# Altium schematic symbol library Разъемы.SchLib: 49 symbols
Pins are listed as number, name and electrical type; pins without a type are passive.

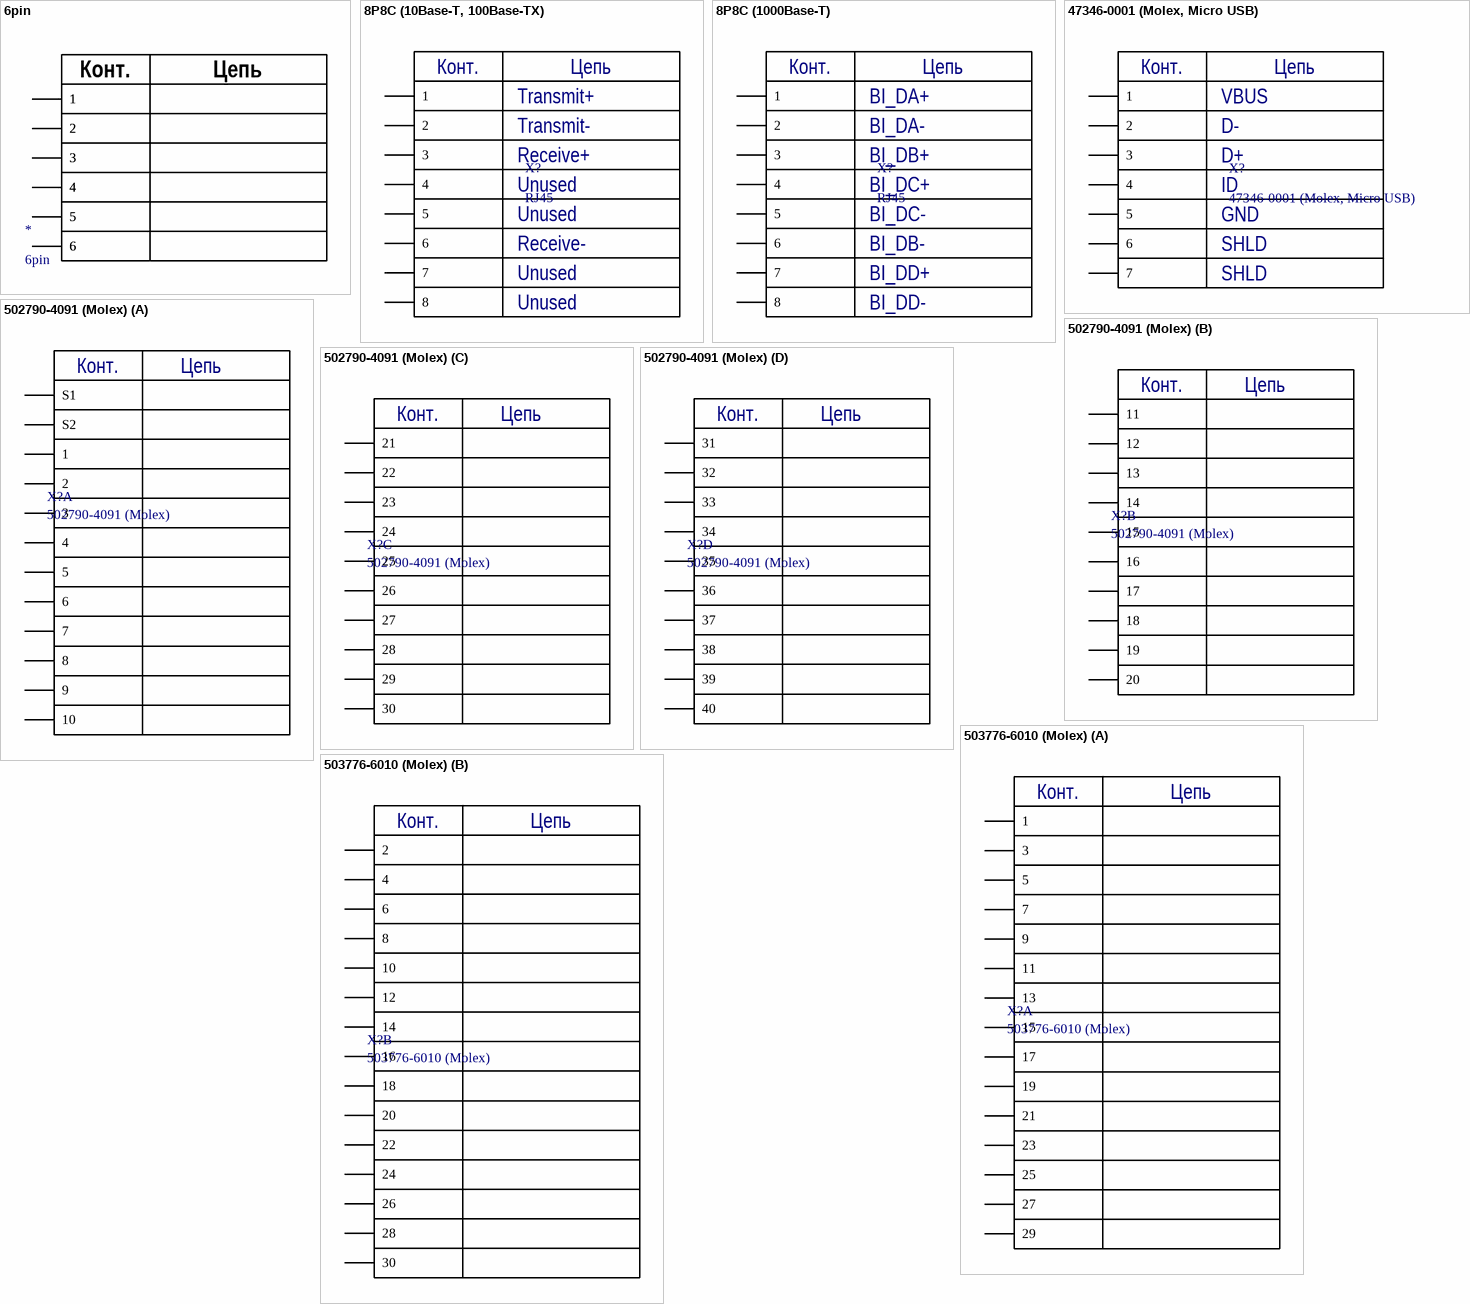
[diagram p0: symbols 6pin to 503776-6010 (Molex)]

## 6pin
designator *
footprint 62000611622 (2.00mm Male Vertical Shrouded Header, 6p)
pins: 1, 1, 2, 2, 3, 3, 4, 4, 5, 5, 6, 6
text: Конт.; Цепь

## 8P8C (10Base-T, 100Base-TX)
designator X?, comment RJ45
8P8C
footprint TE 1-406541-1 (Ethernet)
footprint TE 1-406541-4 (Ethernet)
footprint TE 1-406541-6 (Ethernet)
footprint TE 1-406541-9 (Ethernet)
footprint TE 2-406541-1 (Ethernet)
pins: 1, 2, 3, 4, 5, 6, 7, 8
text: Конт.; Цепь; Transmit+; Transmit-; Receive+; Unused; Receive-

## 8P8C (1000Base-T)
designator X?, comment RJ45
8P8C
footprint TE 1-406541-1 (Ethernet)
footprint TE 1-406541-4 (Ethernet)
footprint TE 1-406541-6 (Ethernet)
footprint TE 1-406541-9 (Ethernet)
footprint TE 2-406541-1 (Ethernet)
pins: 1, 2, 3, 4, 5, 6, 7, 8
text: Конт.; Цепь; BI_DA+; BI_DA-; BI_DB+; BI_DC+; BI_DC-; BI_DB-; BI_DD+; BI_DD-

## 47346-0001 (Molex, Micro USB)
designator X?
footprint 47346-0001 (Molex, Micro USB)
pins: 1, 2, 3, 4, 5, 6, 7
text: Конт.; Цепь; VBUS; D-; D+; ID; GND; SHLD

## 502790-4091 (Molex)
designator X?
footprint 502790-4091 (Molex)
part A pins: 1, 2, 3, 4, 5, 6, 7, 8, 9, 10, S1, S2
part B pins: 11, 12, 13, 14, 15, 16, 17, 18, 19, 20
part C pins: 21, 22, 23, 24, 25, 26, 27, 28, 29, 30
part D pins: 31, 32, 33, 34, 35, 36, 37, 38, 39, 40
part A text: Конт.; Цепь
part B text: Конт.; Цепь
part C text: Конт.; Цепь
part D text: Конт.; Цепь

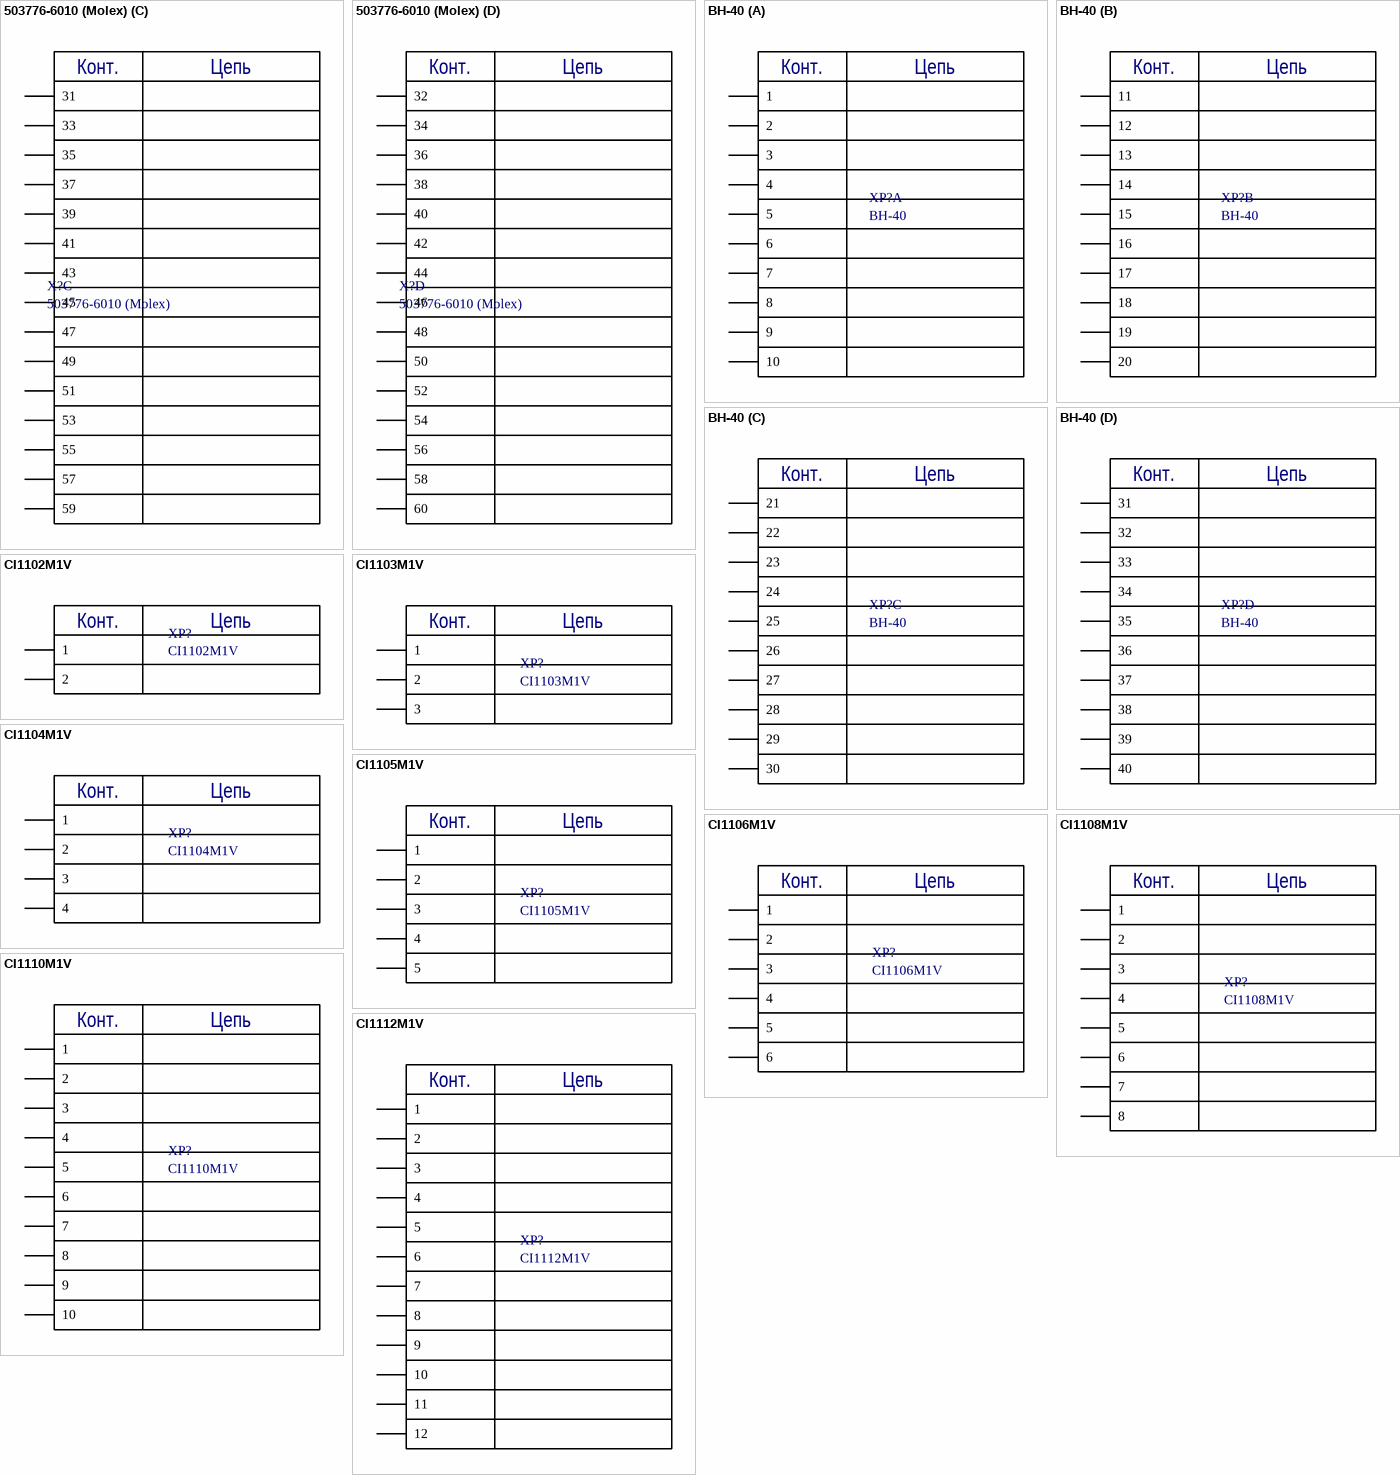
[diagram p1: symbols 503776-6010 (Molex) to CI1112M1V]

## 503776-6010 (Molex)
designator X?
footprint 503776-6010 (Molex)
footprint MDP04A (MDP04A в 503776-6010 (Molex))
part A pins: 1, 3, 5, 7, 9, 11, 13, 15, 17, 19, 21, 23, 25, 27, 29
part B pins: 2, 4, 6, 8, 10, 12, 14, 16, 18, 20, 22, 24, 26, 28, 30
part C pins: 31, 33, 35, 37, 39, 41, 43, 45, 47, 49, 51, 53, 55, 57, 59
part D pins: 32, 34, 36, 38, 40, 42, 44, 46, 48, 50, 52, 54, 56, 58, 60
part A text: Конт.; Цепь
part B text: Конт.; Цепь
part C text: Конт.; Цепь
part D text: Конт.; Цепь

## BH-40
designator XP?
footprint BH-40 (IDC-40M,DS1013-40S,KLS1-202-40-S)
part A pins: 1, 2, 3, 4, 5, 6, 7, 8, 9, 10
part B pins: 11, 12, 13, 14, 15, 16, 17, 18, 19, 20
part C pins: 21, 22, 23, 24, 25, 26, 27, 28, 29, 30
part D pins: 31, 32, 33, 34, 35, 36, 37, 38, 39, 40
part A text: Конт.; Цепь
part B text: Конт.; Цепь
part C text: Конт.; Цепь
part D text: Конт.; Цепь

## CI1102M1V
designator XP?
footprint CI1102M1V
pins: 1, 2
text: Конт.; Цепь

## CI1103M1V
designator XP?
footprint CI1103M1V
pins: 1, 2, 3
text: Конт.; Цепь

## CI1104M1V
designator XP?
footprint CI1104M1V
pins: 1, 2, 3, 4
text: Конт.; Цепь

## CI1105M1V
designator XP?
footprint CI1105M1V
pins: 1, 2, 3, 4, 5
text: Конт.; Цепь

## CI1106M1V
designator XP?
footprint CI1106M1V
pins: 1, 2, 3, 4, 5, 6
text: Конт.; Цепь

## CI1108M1V
designator XP?
footprint CI1108M1V
pins: 1, 2, 3, 4, 5, 6, 7, 8
text: Конт.; Цепь

## CI1110M1V
designator XP?
footprint CI1110M1V
pins: 1, 2, 3, 4, 5, 6, 7, 8, 9, 10
text: Конт.; Цепь

## CI1112M1V
designator XP?
footprint CI1112M1V
pins: 1, 2, 3, 4, 5, 6, 7, 8, 9, 10, 11, 12
text: Конт.; Цепь

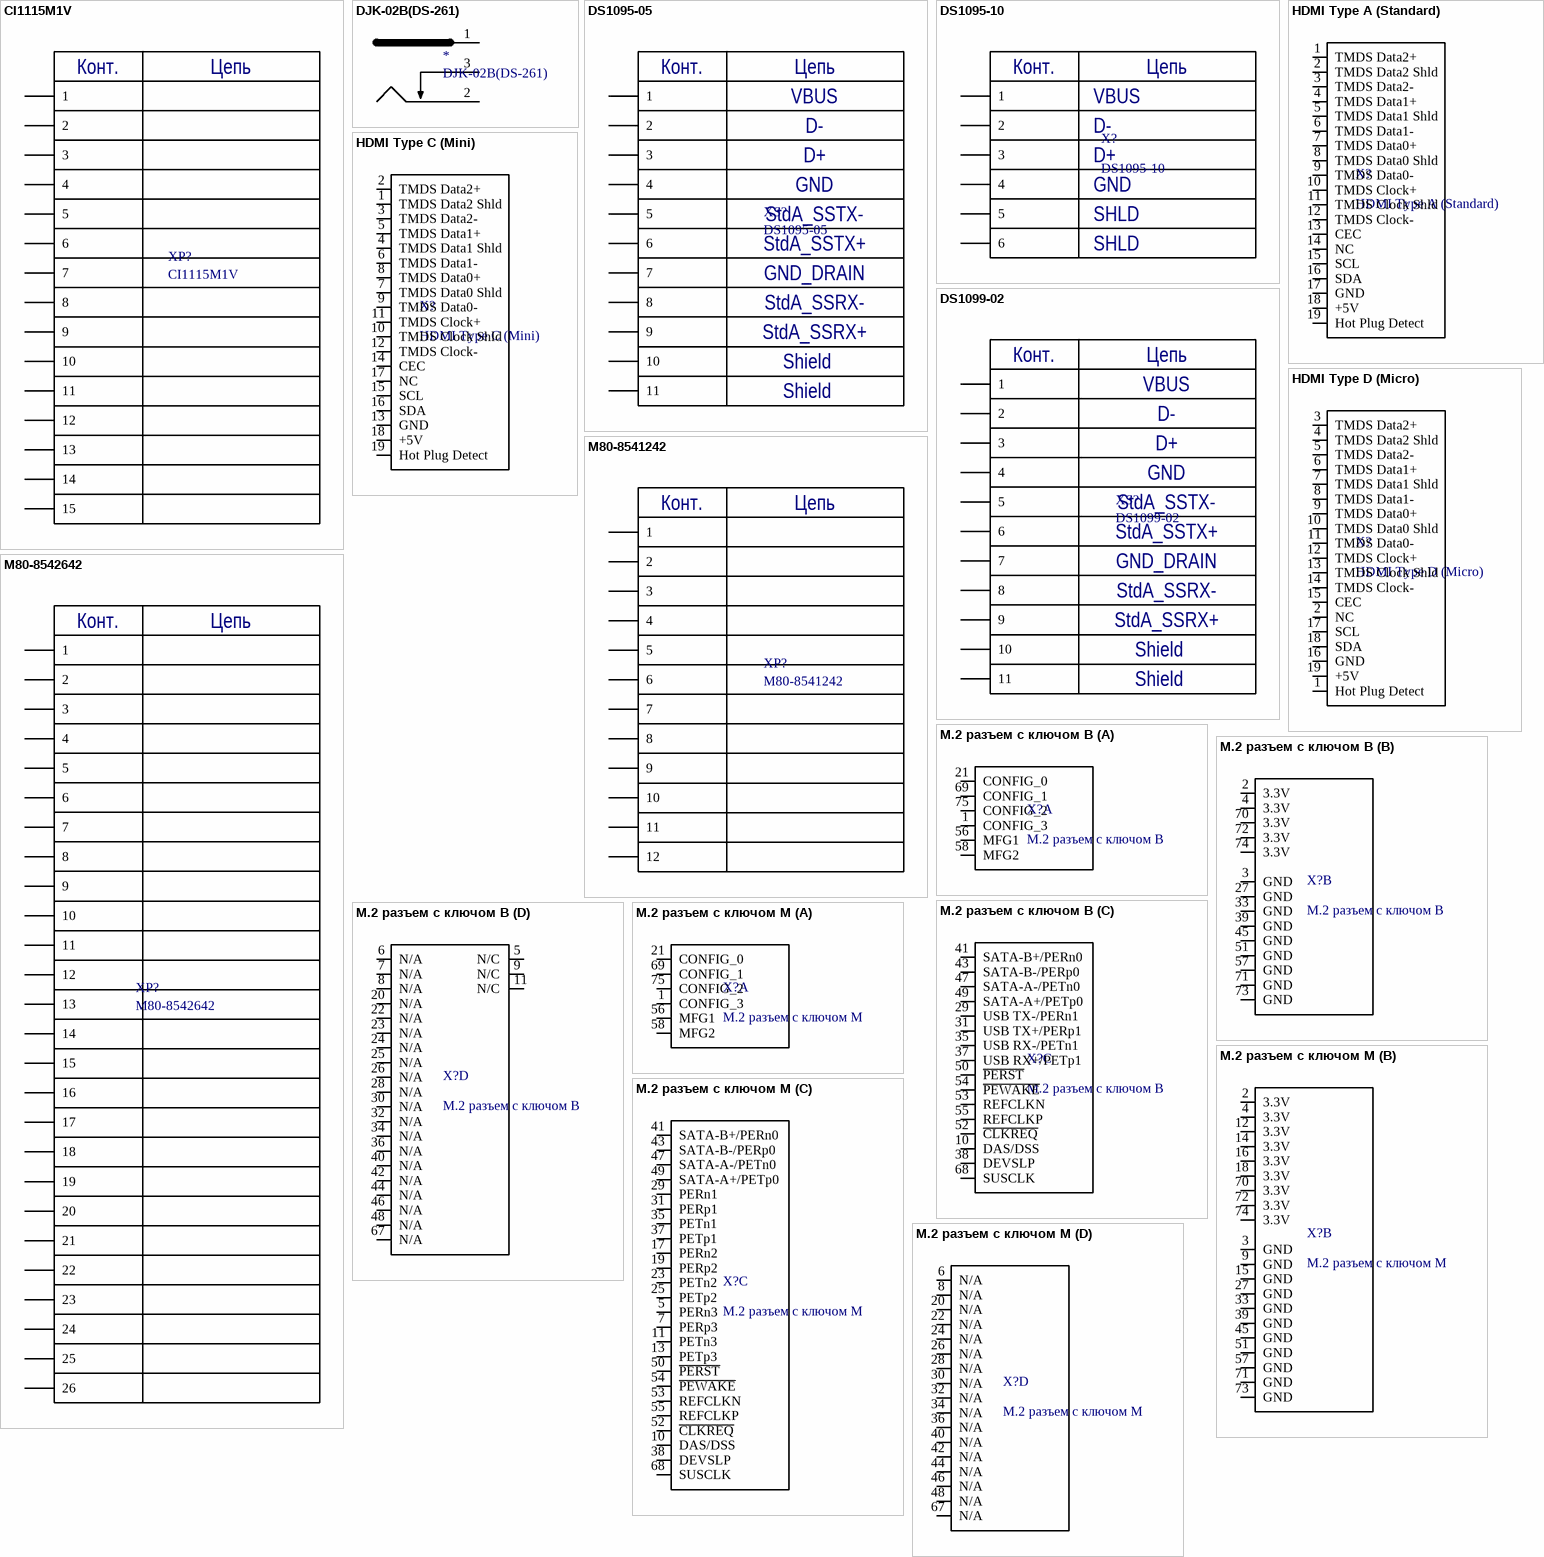
[diagram p2: symbols CI1115M1V to M.2 разъем с ключом M]

## CI1115M1V
designator XP?
footprint CI1115M1V
pins: 1, 2, 3, 4, 5, 6, 7, 8, 9, 10, 11, 12, 13, 14, 15
text: Конт.; Цепь

## DJK-02B(DS-261)
designator *
footprint DJK-02B(DS-261)
pins: 1, 2, 3

## DS1095-05
designator XS?
Гнездо, USB-A, на плату,  угловой 90°; USB 3.0
footprint DS1095-05
pins: 1, 2, 3, 4, 5, 6, 7, 8, 9, 10, 11
text: Конт.; Цепь; VBUS; D-; D+; GND; StdA_SSTX-; StdA_SSTX+; GND_DRAIN; StdA_SSRX-; StdA_SSRX+; Shield

## DS1095-10
designator X?
Гнездо, USB-A, на плату, вертикальный
footprint DS1095-10
pins: 1, 2, 3, 4, 5, 6
text: Конт.; Цепь; VBUS; D-; D+; GND; SHLD

## DS1099-02
designator XS?
Гнездо, USB-B, на плату, угловой 90°, USB 3.0
footprint DS1099-02
pins: 1, 2, 3, 4, 5, 6, 7, 8, 9, 10, 11
text: Конт.; Цепь; VBUS; D-; D+; GND; StdA_SSTX-; StdA_SSTX+; GND_DRAIN; StdA_SSRX-; StdA_SSRX+; Shield

## HDMI Type A (Standard)
designator X?
pins: 1 TMDS Data2+, 2 TMDS Data2 Shld, 3 TMDS Data2-, 4 TMDS Data1+, 5 TMDS Data1 Shld, 6 TMDS Data1-, 7 TMDS Data0+, 8 TMDS Data0 Shld, 9 TMDS Data0-, 10 TMDS Clock+, 11 TMDS Clock Shld, 12 TMDS Clock-, 13 CEC, 14 NC, 15 SCL, 16 SDA, 17 GND, 18 +5V, 19 Hot Plug Detect

## HDMI Type C (Mini)
designator X?
footprint 685119136923 (Wurth Elektronik, Mini-HDMI)
pins: 1 TMDS Data2 Shld, 2 TMDS Data2+, 3 TMDS Data2-, 4 TMDS Data1 Shld, 5 TMDS Data1+, 6 TMDS Data1-, 7 TMDS Data0 Shld, 8 TMDS Data0+, 9 TMDS Data0-, 10 TMDS Clock Shld, 11 TMDS Clock+, 12 TMDS Clock-, 13 GND, 14 CEC, 15 SCL, 16 SDA, 17 NC, 18 +5V, 19 Hot Plug Detect

## HDMI Type D (Micro)
designator X?
footprint Molex (46765-0001)
footprint Molex (46765-1001)
footprint Molex (46765-2301)
footprint Molex (46765-2301) - уменьшена зона запрета
pins: 1 Hot Plug Detect, 2 NC, 3 TMDS Data2+, 4 TMDS Data2 Shld, 5 TMDS Data2-, 6 TMDS Data1+, 7 TMDS Data1 Shld, 8 TMDS Data1-, 9 TMDS Data0+, 10 TMDS Data0 Shld, 11 TMDS Data0-, 12 TMDS Clock+, 13 TMDS Clock Shld, 14 TMDS Clock-, 15 CEC, 16 GND, 17 SCL, 18 SDA, 19 +5V

## M80-8541242
designator XP?
footprint Harwin L-Tek M80-8541242
pins: 1, 2, 3, 4, 5, 6, 7, 8, 9, 10, 11, 12
text: Конт.; Цепь

## M80-8542642
designator XP?
footprint Harwin L-Tek M80-8542642
footprint M80-8542642 (Harwin)
pins: 1, 2, 3, 4, 5, 6, 7, 8, 9, 10, 11, 12, 13, 14, 15, 16, 17, 18, 19, 20, 21, 22, 23, 24, 25, 26
text: Конт.; Цепь

## M.2 разъем с ключом B
designator X?
footprint 123A-32MA0-R01
footprint 123A-32MA0-R01 с картой 42
footprint 123A-32MA0-R01 с картой 60
footprint 123A-32MA0-R01 с картой 80
footprint 123A-32MA0-R01 с картой 110
part A pins: 1 CONFIG_3, 21 CONFIG_0, 56 MFG1, 58 MFG2, 69 CONFIG_1, 75 CONFIG_2
part B pins: 2 3.3V, 3 GND, 4 3.3V, 27 GND, 33 GND, 39 GND, 45 GND, 51 GND, 57 GND, 70 3.3V, 71 GND, 72 3.3V, 73 GND, 74 3.3V
part C pins: 10 DAS/DSS, 29 USB TX-/PERn1, 31 USB TX+/PERp1, 35 USB RX-/PETn1, 37 USB RX+/PETp1, 38 DEVSLP, 41 SATA-B+/PERn0, 43 SATA-B-/PERp0, 47 SATA-A-/PETn0, 49 SATA-A+/PETp0, 50 ~{PERST}, 52 ~{CLKREQ}, 53 REFCLKN, 54 ~{PEWAKE}, 55 REFCLKP, 68 SUSCLK
part D pins: 5 N/C, 6 N/A, 7 N/A, 8 N/A, 9 N/C, 11 N/C, 20 N/A, 22 N/A, 23 N/A, 24 N/A, 25 N/A, 26 N/A, 28 N/A, 30 N/A, 32 N/A, 34 N/A, 36 N/A, 40 N/A, 42 N/A, 44 N/A, 46 N/A, 48 N/A, 67 N/A

## M.2 разъем с ключом M
designator X?
part A pins: 1 CONFIG_3, 21 CONFIG_0, 56 MFG1, 58 MFG2, 69 CONFIG_1, 75 CONFIG_2
part B pins: 2 3.3V, 3 GND, 4 3.3V, 9 GND, 12 3.3V, 14 3.3V, 15 GND, 16 3.3V, 18 3.3V, 27 GND, 33 GND, 39 GND, 45 GND, 51 GND, 57 GND, 70 3.3V, 71 GND, 72 3.3V, 73 GND, 74 3.3V
part C pins: 5 PERn3, 7 PERp3, 10 DAS/DSS, 11 PETn3, 13 PETp3, 17 PERn2, 19 PERp2, 23 PETn2, 25 PETp2, 29 PERn1, 31 PERp1, 35 PETn1, 37 PETp1, 38 DEVSLP, 41 SATA-B+/PERn0, 43 SATA-B-/PERp0, 47 SATA-A-/PETn0, 49 SATA-A+/PETp0, 50 ~{PERST}, 52 ~{CLKREQ}, 53 REFCLKN, 54 ~{PEWAKE}, 55 REFCLKP, 68 SUSCLK
part D pins: 6 N/A, 8 N/A, 20 N/A, 22 N/A, 24 N/A, 26 N/A, 28 N/A, 30 N/A, 32 N/A, 34 N/A, 36 N/A, 40 N/A, 42 N/A, 44 N/A, 46 N/A, 48 N/A, 67 N/A

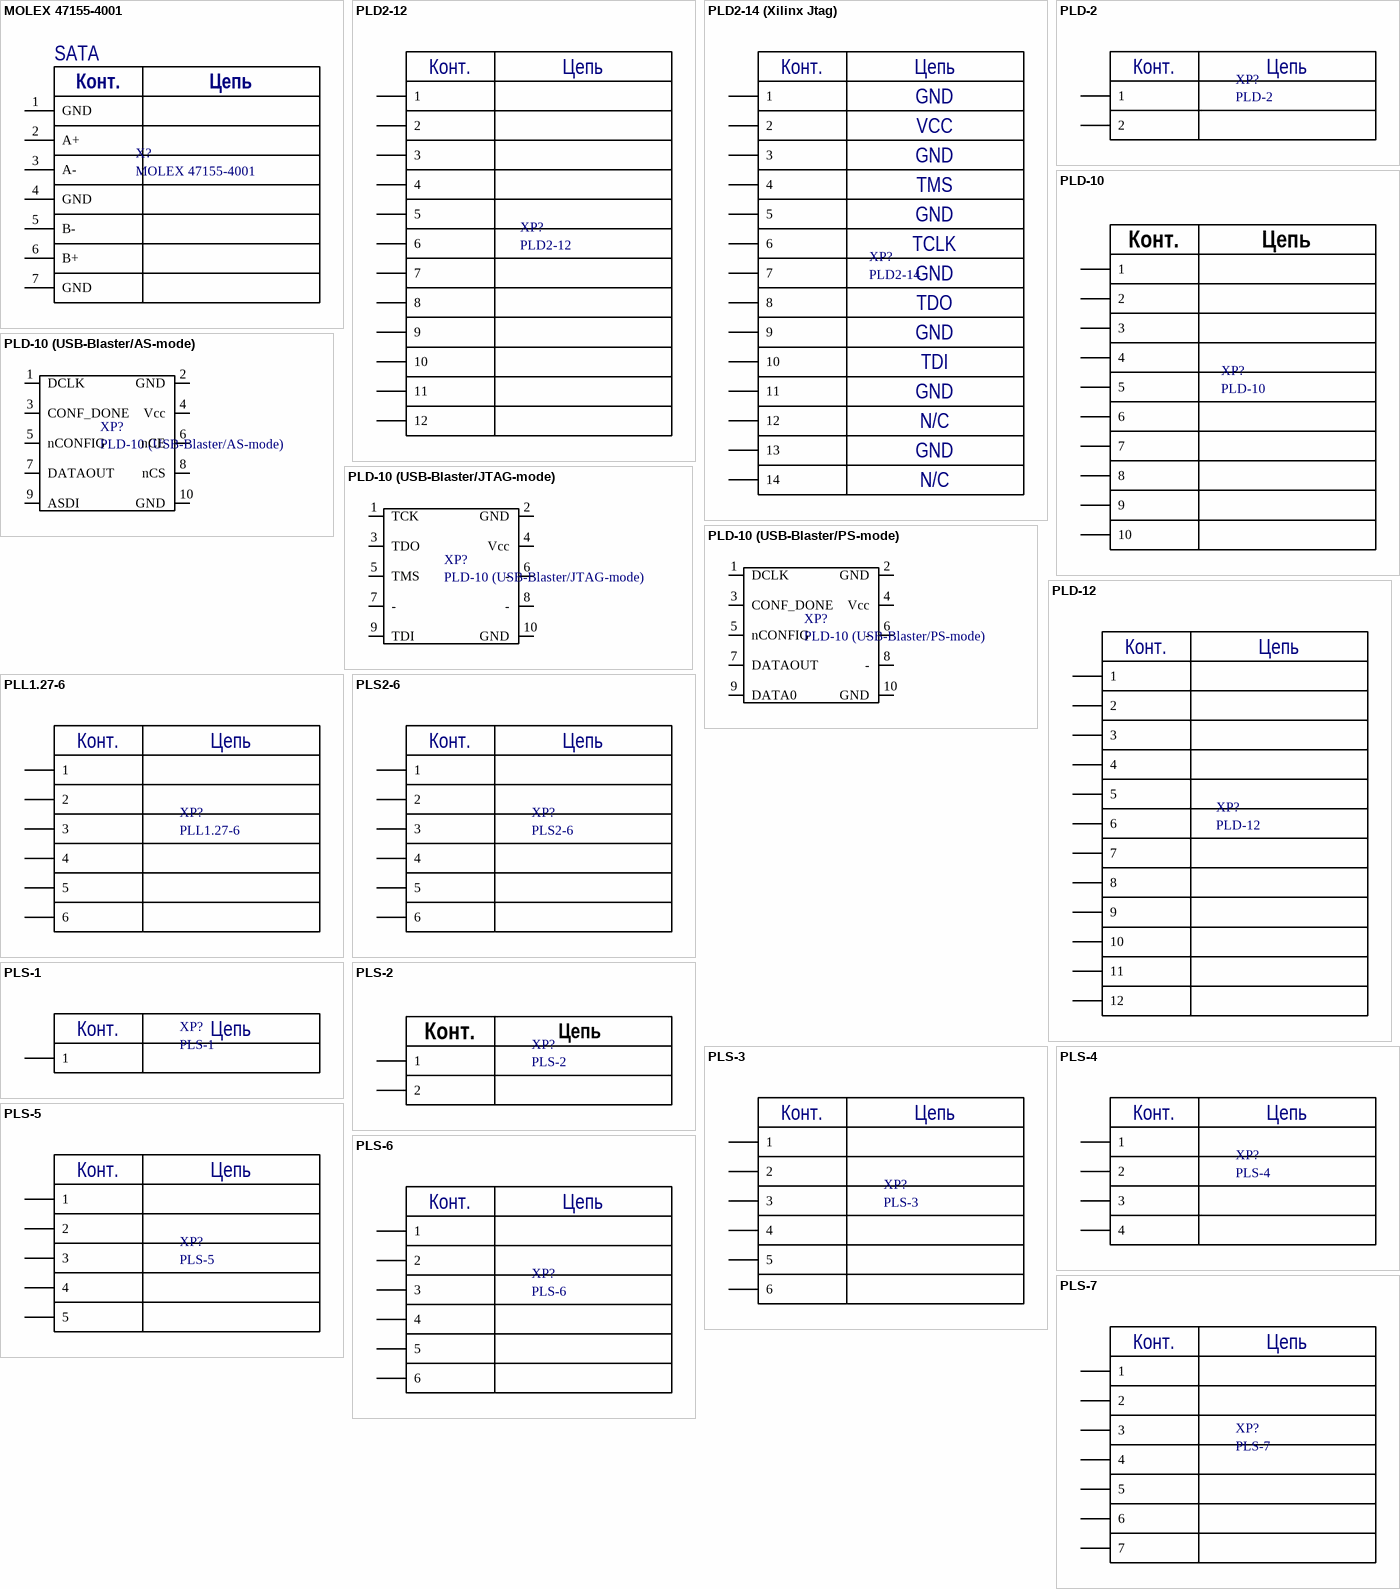
[diagram p3: symbols MOLEX 47155-4001 to PLS-7]

## MOLEX 47155-4001
designator X?
MOLEX 47155-4001 (SATA)
footprint MOLEX 47155-4001 (MOLEX 47155-4001 (SATA))
pins: 1 GND, 2 A+, 3 A-, 4 GND, 5 B-, 6 B+, 7 GND
text: SATA; Конт.; Цепь

## PLD2-12
designator XP?
footprint PLD2-12
pins: 1, 2, 3, 4, 5, 6, 7, 8, 9, 10, 11, 12
text: Конт.; Цепь

## PLD2-14 (Xilinx Jtag)
designator XP?, comment PLD2-14
footprint PLD2-14
pins: 1, 2, 3, 4, 5, 6, 7, 8, 9, 10, 11, 12, 13, 14
text: Конт.; Цепь; GND; VCC; TMS; TCLK; TDO; TDI; N/C

## PLD-2
designator XP?
footprint PLS-2
pins: 1, 2
text: Конт.; Цепь

## PLD-10
designator XP?
footprint PLD-10
footprint BH10
pins: 1, 2, 3, 4, 5, 6, 7, 8, 9, 10
text: Конт.; Цепь

## PLD-10 (USB-Blaster/AS-mode)
designator XP?
footprint PLD-10
footprint BH10
pins: 1 DCLK, 2 GND, 3 CONF_DONE, 4 Vcc, 5 nCONFIG, 6 nCE, 7 DATAOUT, 8 nCS, 9 ASDI, 10 GND

## PLD-10 (USB-Blaster/JTAG-mode)
designator XP?
footprint PLD-10
footprint BH10
pins: 1 TCK, 2 GND, 3 TDO, 4 Vcc, 5 TMS, 6 -, 7 -, 8 -, 9 TDI, 10 GND

## PLD-10 (USB-Blaster/PS-mode)
designator XP?
footprint PLD-10
footprint BH10
pins: 1 DCLK, 2 GND, 3 CONF_DONE, 4 Vcc, 5 nCONFIG, 6 -, 7 DATAOUT, 8 -, 9 DATA0, 10 GND

## PLD-12
designator XP?
footprint PLD-12
footprint IDC-12
pins: 1, 2, 3, 4, 5, 6, 7, 8, 9, 10, 11, 12
text: Конт.; Цепь

## PLL1.27-6
designator XP?
footprint PLL1.27-6
pins: 1, 2, 3, 4, 5, 6
text: Конт.; Цепь

## PLS2-6
designator XP?
footprint PLS2-6
pins: 1, 2, 3, 4, 5, 6
text: Конт.; Цепь

## PLS-1
designator XP?
footprint PLS-1
pins: 1
text: Конт.; Цепь

## PLS-2
designator XP?
footprint PLS-2
footprint DG301-5.0-02
pins: 1, 2
text: Конт.; Цепь

## PLS-3
designator XP?
footprint PLS-3
pins: 1, 2, 3, 4, 5, 6
text: Конт.; Цепь

## PLS-4
designator XP?
footprint PLS-4
pins: 1, 2, 3, 4
text: Конт.; Цепь

## PLS-5
designator XP?
footprint PLS-5
footprint 62000511622 (2.00mm Male Vertical Shrouded Header, 5p)
footprint B5B-PH-K-S
footprint B5B-XH-A
pins: 1, 2, 3, 4, 5
text: Конт.; Цепь

## PLS-6
designator XP?
footprint PLS-6
pins: 1, 2, 3, 4, 5, 6
text: Конт.; Цепь

## PLS-7
designator XP?
footprint PLS-7
pins: 1, 2, 3, 4, 5, 6, 7
text: Конт.; Цепь

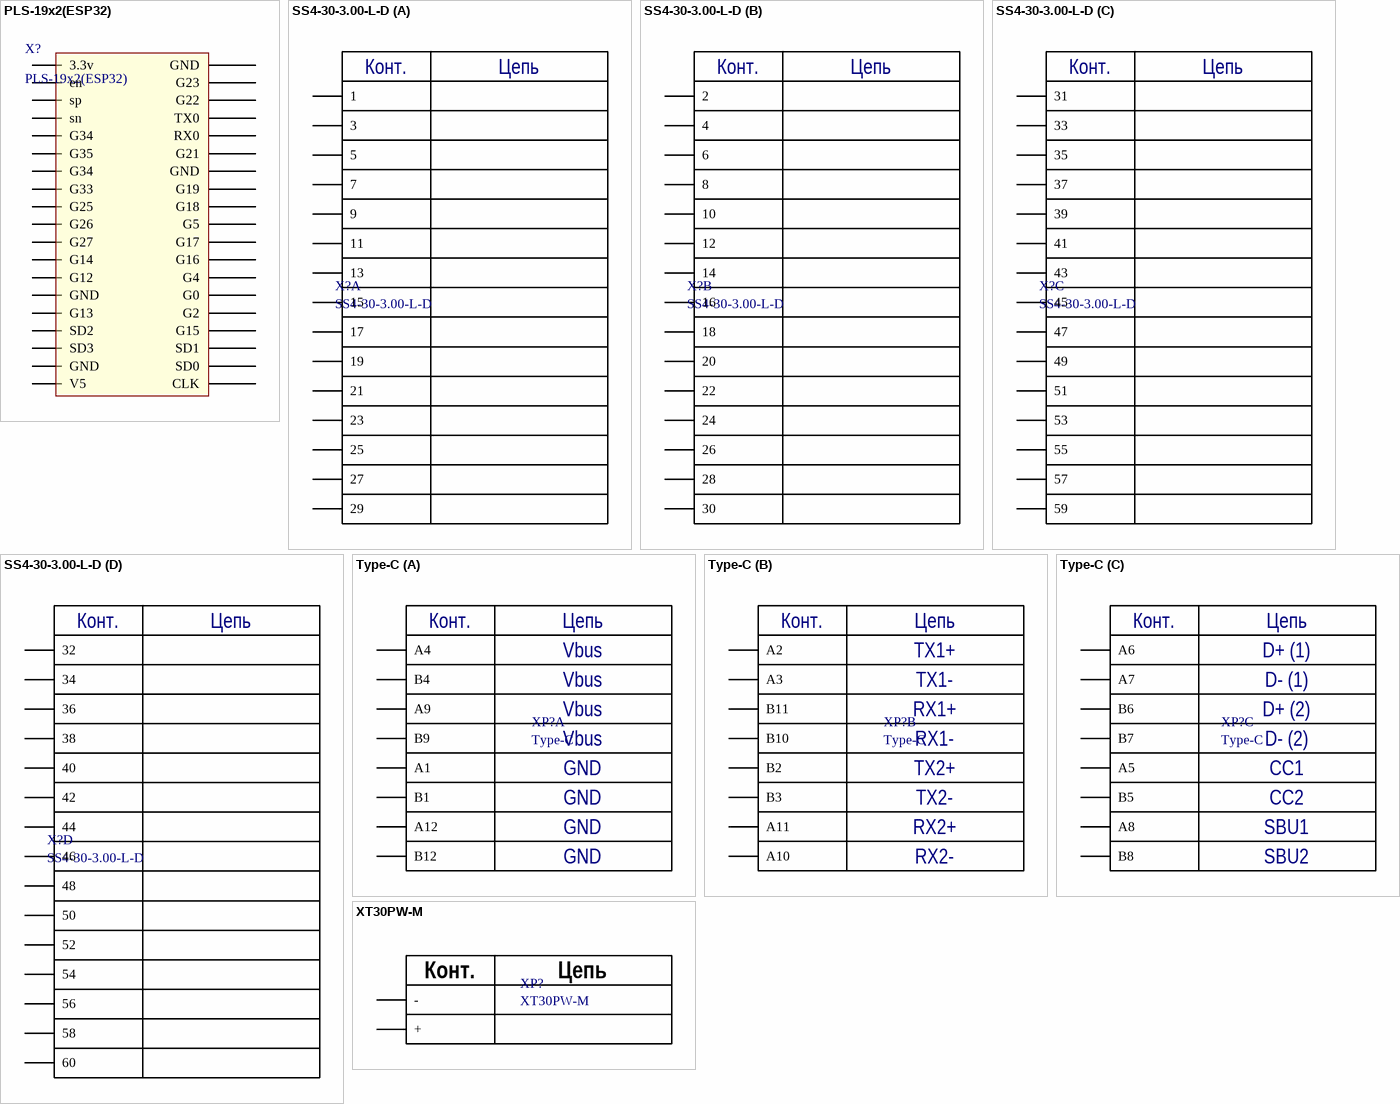
[diagram p4: symbols PLS-19x2(ESP32) to XT30PW-M]

## PLS-19x2(ESP32)
designator X?
footprint PLS(ESP32)
pins: 1 3.3v, 2 en, 3 sp, 4 sn, 5 G34, 6 G35, 7 G34, 8 G33, 9 G25, 10 G26, 11 G27, 12 G14, 13 G12, 14 GND, 15 G13, 16 SD2, 17 SD3, 18 GND, 19 V5, 20 CLK, 21 SD0, 22 SD1, 23 G15, 24 G2, 25 G0, 26 G4, 27 G16, 28 G17, 29 G5, 30 G18, 31 G19, 32 GND, 33 G21, 34 RX0, 35 TX0, 36 G22, 37 G23, 38 GND

## SS4-30-3.00-L-D
designator X?
footprint SS4-30-3.00-L-D
footprint SS4-30-3.00-L-D - с экраном (SS4-30-3.00-L-D)
part A pins: 1, 3, 5, 7, 9, 11, 13, 15, 17, 19, 21, 23, 25, 27, 29
part B pins: 2, 4, 6, 8, 10, 12, 14, 16, 18, 20, 22, 24, 26, 28, 30
part C pins: 31, 33, 35, 37, 39, 41, 43, 45, 47, 49, 51, 53, 55, 57, 59
part D pins: 32, 34, 36, 38, 40, 42, 44, 46, 48, 50, 52, 54, 56, 58, 60
part A text: Конт.; Цепь
part B text: Конт.; Цепь
part C text: Конт.; Цепь
part D text: Конт.; Цепь

## Type-C
designator XP?
footprint 105450-001 (Molex) (Type-C)
part A pins: A1, A4, A9, A12, B1, B4, B9, B12
part B pins: A2, A3, A10, A11, B2, B3, B10, B11
part C pins: A5, A6, A7, A8, B5, B6, B7, B8
part A text: Конт.; Цепь; Vbus; GND
part B text: Конт.; Цепь; TX1+; TX1-; RX1+; RX1-; TX2+; TX2-; RX2+; RX2-
part C text: Конт.; Цепь; D+ (1); D- (1); D+ (2); D- (2); CC1; CC2; SBU1; SBU2

## XT30PW-M
designator XP?
footprint XT30PW-M
footprint XT30U-F
pins: 1 -, 2 +
text: Конт.; Цепь